# EAGLE library part ICV3 (library con-phoenix-508b)
PHOENIX
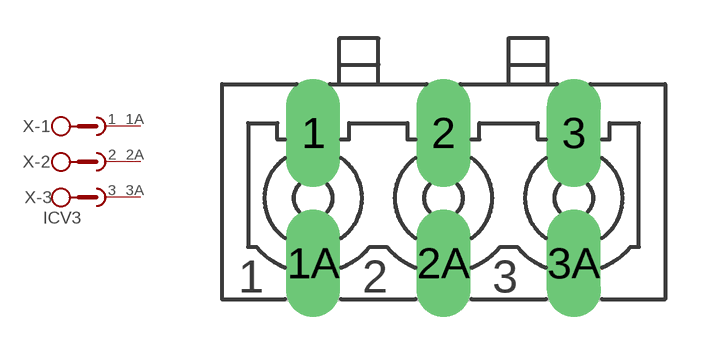
[diagram p28: symbol with the pads of ICV3; footprint ICV3]

Designator prefix X; gates -1=SKB2 -2=SKB2 -3=SKB2V

## ICV3  [ICV3]
1  -1:1  pas
1A  -1:2  pas
2  -2:1  pas
2A  -2:2  pas
3  -3:1  pas
3A  -3:2  pas

## Footprint ICV3 (pad centres in mm)
PHOENIX
drill 1.397 long: 1 -5.08,2.54; 1A -5.08,-2.54; 2 0,2.54; 2A 0,-2.54; 3 5.08,2.54; 3A 5.08,-2.54